# EAGLE library part 746X101 (library xess)
Bussed Resistor
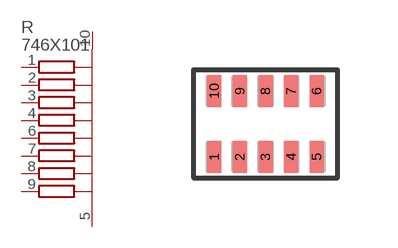
[diagram p54: symbol with the pads of 746X; footprint 746X]

Designator prefix R

## 746X101  [746X]
1  1  pas
2  2  pas
3  3  pas
4  4  pas
5  5  pas
6  6  pas
7  7  pas
8  8  pas
9  9  pas
10  10  pas

## Footprint 746X (pad centres in mm)
smd 0.35 x 0.8: 1 -1.28,-0.825; 2 -0.64,-0.825; 3 0,-0.825; 4 0.64,-0.825; 5 1.28,-0.825; 6 1.28,0.825; 7 0.64,0.825; 8 0,0.825; 9 -0.64,0.825; 10 -1.28,0.825